# Altium schematic symbol library SCH - MCU - STM32 - ST MICROELECTRONICS STM32U585QIIXQ UFBGA132.SchLib: 1 symbol
Pins are listed as number, name and electrical type; pins without a type are passive.

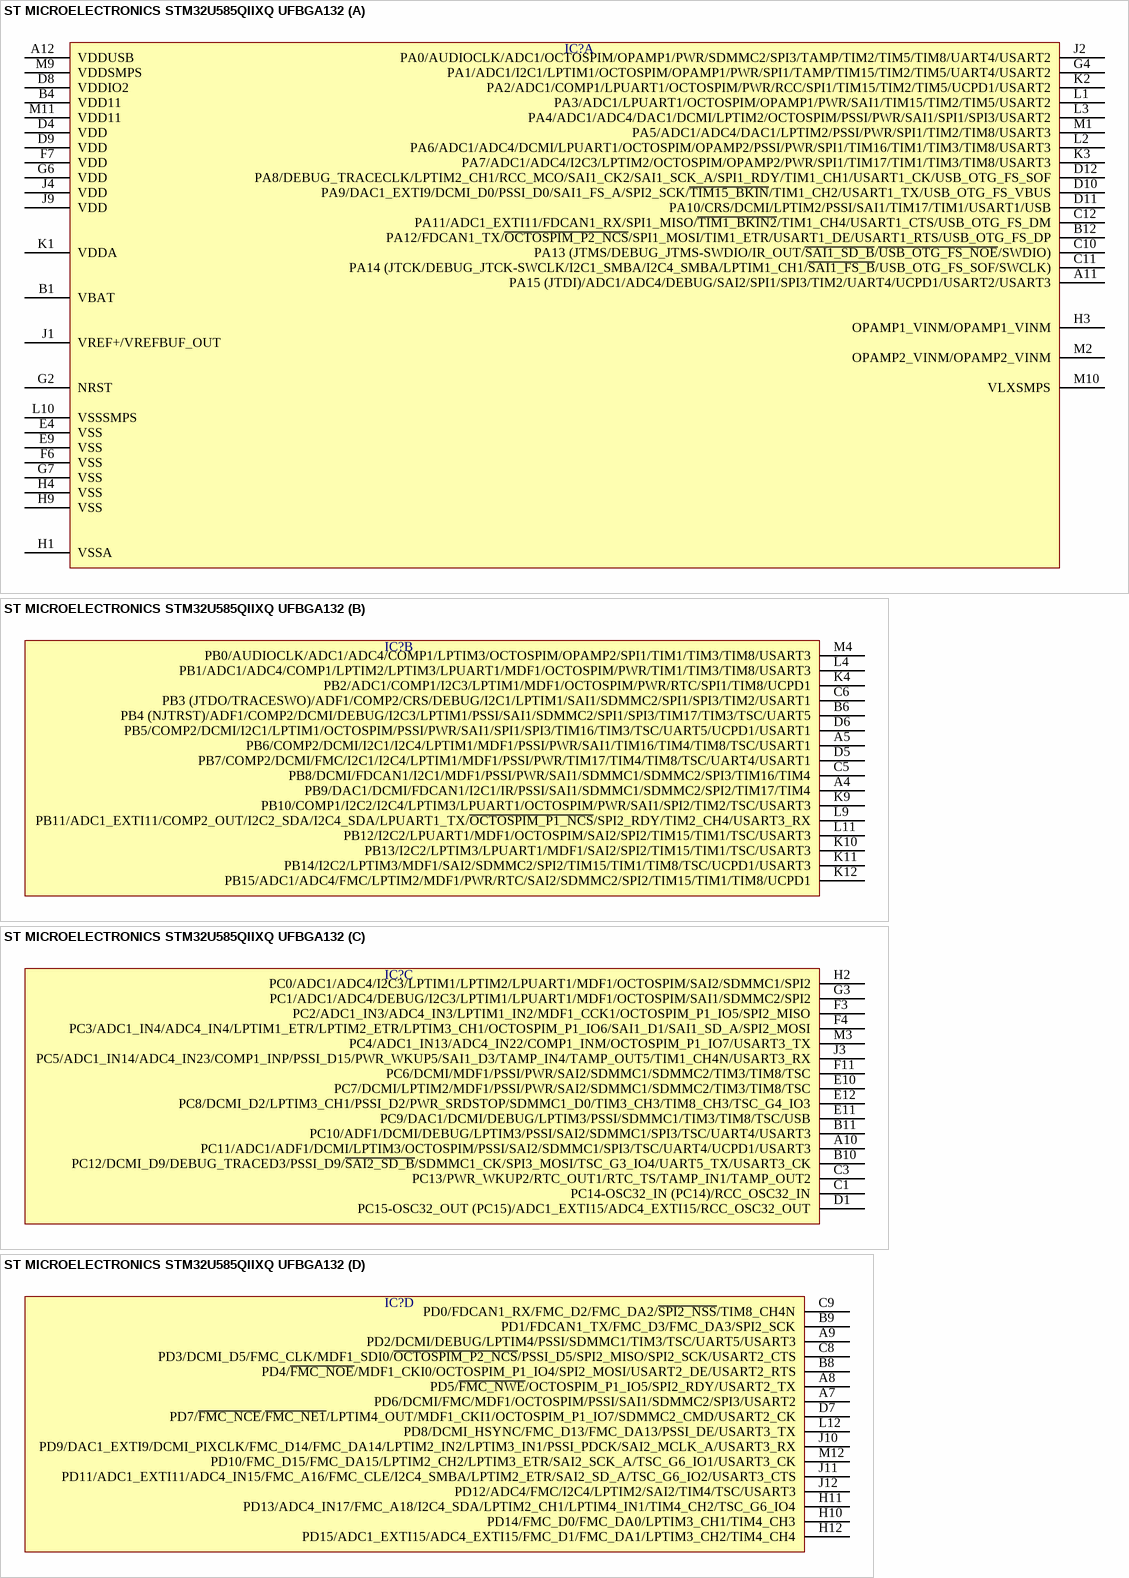
[diagram p0: symbol ST MICROELECTRONICS STM32U585QIIXQ UFBGA132]

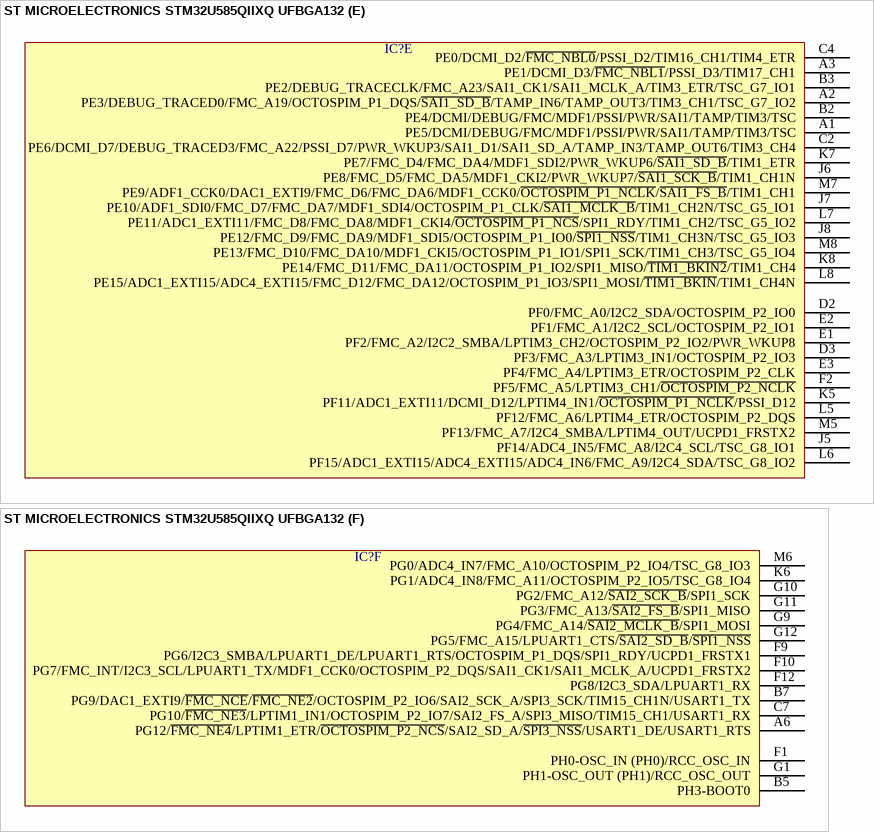
[diagram p1: symbol ST MICROELECTRONICS STM32U585QIIXQ UFBGA132]

## ST MICROELECTRONICS STM32U585QIIXQ UFBGA132
designator IC?  (value not drawn)
part A pins: A11 PA15 (JTDI)/ADC1/ADC4/DEBUG/SAI2/SPI1/SPI3/TIM2/UART4/UCPD1/USART2/USART3, A12 VDDUSB, B1 VBAT, B4 VDD11, B12 PA12/FDCAN1_TX/~{OCTOSPIM_P2_NCS}/SPI1_MOSI/TIM1_ETR/USART1_DE/USART1_RTS/USB_OTG_FS_DP, C10 PA13 (JTMS/DEBUG_JTMS-SWDIO/IR_OUT/~{SAI1_SD_B}/~{USB_OTG_FS_NOE}/SWDIO), C11 PA14 (JTCK/DEBUG_JTCK-SWCLK/I2C1_SMBA/I2C4_SMBA/LPTIM1_CH1/~{SAI1_FS_B}/USB_OTG_FS_SOF/SWCLK), C12 PA11/ADC1_EXTI11/FDCAN1_RX/SPI1_MISO/~{TIM1_BKIN2}/TIM1_CH4/USART1_CTS/USB_OTG_FS_DM, D4 VDD, D8 VDDIO2, D9 VDD, D10 PA9/DAC1_EXTI9/DCMI_D0/PSSI_D0/SAI1_FS_A/SPI2_SCK/~{TIM15_BKIN}/TIM1_CH2/USART1_TX/USB_OTG_FS_VBUS, D11 PA10/CRS/DCMI/LPTIM2/PSSI/SAI1/TIM17/TIM1/USART1/USB, D12 PA8/DEBUG_TRACECLK/LPTIM2_CH1/RCC_MCO/SAI1_CK2/SAI1_SCK_A/SPI1_RDY/TIM1_CH1/USART1_CK/USB_OTG_FS_SOF, E4 VSS, E9 VSS, F6 VSS, F7 VDD, G2 NRST, G4 PA1/ADC1/I2C1/LPTIM1/OCTOSPIM/OPAMP1/PWR/SPI1/TAMP/TIM15/TIM2/TIM5/UART4/USART2, G6 VDD, G7 VSS, H1 VSSA, H3 OPAMP1_VINM/OPAMP1_VINM, H4 VSS, H9 VSS, J1 VREF+/VREFBUF_OUT, J2 PA0/AUDIOCLK/ADC1/OCTOSPIM/OPAMP1/PWR/SDMMC2/SPI3/TAMP/TIM2/TIM5/TIM8/UART4/USART2, J4 VDD, J9 VDD, K1 VDDA, K2 PA2/ADC1/COMP1/LPUART1/OCTOSPIM/PWR/RCC/SPI1/TIM15/TIM2/TIM5/UCPD1/USART2, K3 PA7/ADC1/ADC4/I2C3/LPTIM2/OCTOSPIM/OPAMP2/PWR/SPI1/TIM17/TIM1/TIM3/TIM8/USART3, L1 PA3/ADC1/LPUART1/OCTOSPIM/OPAMP1/PWR/SAI1/TIM15/TIM2/TIM5/USART2, L2 PA6/ADC1/ADC4/DCMI/LPUART1/OCTOSPIM/OPAMP2/PSSI/PWR/SPI1/TIM16/TIM1/TIM3/TIM8/USART3, L3 PA4/ADC1/ADC4/DAC1/DCMI/LPTIM2/OCTOSPIM/PSSI/PWR/SAI1/SPI1/SPI3/USART2, L10 VSSSMPS, M1 PA5/ADC1/ADC4/DAC1/LPTIM2/PSSI/PWR/SPI1/TIM2/TIM8/USART3, M2 OPAMP2_VINM/OPAMP2_VINM, M9 VDDSMPS, M10 VLXSMPS, M11 VDD11
part B pins: A4 PB9/DAC1/DCMI/FDCAN1/I2C1/IR/PSSI/SAI1/SDMMC1/SDMMC2/SPI2/TIM17/TIM4, A5 PB6/COMP2/DCMI/I2C1/I2C4/LPTIM1/MDF1/PSSI/PWR/SAI1/TIM16/TIM4/TIM8/TSC/USART1, B6 PB4 (NJTRST)/ADF1/COMP2/DCMI/DEBUG/I2C3/LPTIM1/PSSI/SAI1/SDMMC2/SPI1/SPI3/TIM17/TIM3/TSC/UART5, C5 PB8/DCMI/FDCAN1/I2C1/MDF1/PSSI/PWR/SAI1/SDMMC1/SDMMC2/SPI3/TIM16/TIM4, C6 PB3 (JTDO/TRACESWO)/ADF1/COMP2/CRS/DEBUG/I2C1/LPTIM1/SAI1/SDMMC2/SPI1/SPI3/TIM2/USART1, D5 PB7/COMP2/DCMI/FMC/I2C1/I2C4/LPTIM1/MDF1/PSSI/PWR/TIM17/TIM4/TIM8/TSC/UART4/USART1, D6 PB5/COMP2/DCMI/I2C1/LPTIM1/OCTOSPIM/PSSI/PWR/SAI1/SPI1/SPI3/TIM16/TIM3/TSC/UART5/UCPD1/USART1, K4 PB2/ADC1/COMP1/I2C3/LPTIM1/MDF1/OCTOSPIM/PWR/RTC/SPI1/TIM8/UCPD1, K9 PB10/COMP1/I2C2/I2C4/LPTIM3/LPUART1/OCTOSPIM/PWR/SAI1/SPI2/TIM2/TSC/USART3, K10 PB13/I2C2/LPTIM3/LPUART1/MDF1/SAI2/SPI2/TIM15/TIM1/TSC/USART3, K11 PB14/I2C2/LPTIM3/MDF1/SAI2/SDMMC2/SPI2/TIM15/TIM1/TIM8/TSC/UCPD1/USART3, K12 PB15/ADC1/ADC4/FMC/LPTIM2/MDF1/PWR/RTC/SAI2/SDMMC2/SPI2/TIM15/TIM1/TIM8/UCPD1, L4 PB1/ADC1/ADC4/COMP1/LPTIM2/LPTIM3/LPUART1/MDF1/OCTOSPIM/PWR/TIM1/TIM3/TIM8/USART3, L9 PB11/ADC1_EXTI11/COMP2_OUT/I2C2_SDA/I2C4_SDA/LPUART1_TX/~{OCTOSPIM_P1_NCS}/SPI2_RDY/TIM2_CH4/USART3_RX, L11 PB12/I2C2/LPUART1/MDF1/OCTOSPIM/SAI2/SPI2/TIM15/TIM1/TSC/USART3, M4 PB0/AUDIOCLK/ADC1/ADC4/COMP1/LPTIM3/OCTOSPIM/OPAMP2/SPI1/TIM1/TIM3/TIM8/USART3
part C pins: A10 PC11/ADC1/ADF1/DCMI/LPTIM3/OCTOSPIM/PSSI/SAI2/SDMMC1/SPI3/TSC/UART4/UCPD1/USART3, B10 PC12/DCMI_D9/DEBUG_TRACED3/PSSI_D9/~{SAI2_SD_B}/SDMMC1_CK/SPI3_MOSI/TSC_G3_IO4/UART5_TX/USART3_CK, B11 PC10/ADF1/DCMI/DEBUG/LPTIM3/PSSI/SAI2/SDMMC1/SPI3/TSC/UART4/USART3, C1 PC14-OSC32_IN (PC14)/RCC_OSC32_IN, C3 PC13/PWR_WKUP2/RTC_OUT1/RTC_TS/TAMP_IN1/TAMP_OUT2, D1 PC15-OSC32_OUT (PC15)/ADC1_EXTI15/ADC4_EXTI15/RCC_OSC32_OUT, E10 PC7/DCMI/LPTIM2/MDF1/PSSI/PWR/SAI2/SDMMC1/SDMMC2/TIM3/TIM8/TSC, E11 PC9/DAC1/DCMI/DEBUG/LPTIM3/PSSI/SDMMC1/TIM3/TIM8/TSC/USB, E12 PC8/DCMI_D2/LPTIM3_CH1/PSSI_D2/PWR_SRDSTOP/SDMMC1_D0/TIM3_CH3/TIM8_CH3/TSC_G4_IO3, F3 PC2/ADC1_IN3/ADC4_IN3/LPTIM1_IN2/MDF1_CCK1/OCTOSPIM_P1_IO5/SPI2_MISO, F4 PC3/ADC1_IN4/ADC4_IN4/LPTIM1_ETR/LPTIM2_ETR/LPTIM3_CH1/OCTOSPIM_P1_IO6/SAI1_D1/SAI1_SD_A/SPI2_MOSI, F11 PC6/DCMI/MDF1/PSSI/PWR/SAI2/SDMMC1/SDMMC2/TIM3/TIM8/TSC, G3 PC1/ADC1/ADC4/DEBUG/I2C3/LPTIM1/LPUART1/MDF1/OCTOSPIM/SAI1/SDMMC2/SPI2, H2 PC0/ADC1/ADC4/I2C3/LPTIM1/LPTIM2/LPUART1/MDF1/OCTOSPIM/SAI2/SDMMC1/SPI2, J3 PC5/ADC1_IN14/ADC4_IN23/COMP1_INP/PSSI_D15/PWR_WKUP5/SAI1_D3/TAMP_IN4/TAMP_OUT5/TIM1_CH4N/USART3_RX, M3 PC4/ADC1_IN13/ADC4_IN22/COMP1_INM/OCTOSPIM_P1_IO7/USART3_TX
part D pins: A7 PD6/DCMI/FMC/MDF1/OCTOSPIM/PSSI/SAI1/SDMMC2/SPI3/USART2, A8 PD5/~{FMC_NWE}/OCTOSPIM_P1_IO5/SPI2_RDY/USART2_TX, A9 PD2/DCMI/DEBUG/LPTIM4/PSSI/SDMMC1/TIM3/TSC/UART5/USART3, B8 PD4/~{FMC_NOE}/MDF1_CKI0/OCTOSPIM_P1_IO4/SPI2_MOSI/USART2_DE/USART2_RTS, B9 PD1/FDCAN1_TX/FMC_D3/FMC_DA3/SPI2_SCK, C8 PD3/DCMI_D5/FMC_CLK/MDF1_SDI0/~{OCTOSPIM_P2_NCS}/PSSI_D5/SPI2_MISO/SPI2_SCK/USART2_CTS, C9 PD0/FDCAN1_RX/FMC_D2/FMC_DA2/~{SPI2_NSS}/TIM8_CH4N, D7 PD7/~{FMC_NCE}/~{FMC_NE1}/LPTIM4_OUT/MDF1_CKI1/OCTOSPIM_P1_IO7/SDMMC2_CMD/USART2_CK, H10 PD14/FMC_D0/FMC_DA0/LPTIM3_CH1/TIM4_CH3, H11 PD13/ADC4_IN17/FMC_A18/I2C4_SDA/LPTIM2_CH1/LPTIM4_IN1/TIM4_CH2/TSC_G6_IO4, H12 PD15/ADC1_EXTI15/ADC4_EXTI15/FMC_D1/FMC_DA1/LPTIM3_CH2/TIM4_CH4, J10 PD9/DAC1_EXTI9/DCMI_PIXCLK/FMC_D14/FMC_DA14/LPTIM2_IN2/LPTIM3_IN1/PSSI_PDCK/SAI2_MCLK_A/USART3_RX, J11 PD11/ADC1_EXTI11/ADC4_IN15/FMC_A16/FMC_CLE/I2C4_SMBA/LPTIM2_ETR/SAI2_SD_A/TSC_G6_IO2/USART3_CTS, J12 PD12/ADC4/FMC/I2C4/LPTIM2/SAI2/TIM4/TSC/USART3, L12 PD8/DCMI_HSYNC/FMC_D13/FMC_DA13/PSSI_DE/USART3_TX, M12 PD10/FMC_D15/FMC_DA15/LPTIM2_CH2/LPTIM3_ETR/SAI2_SCK_A/TSC_G6_IO1/USART3_CK
part E pins: A1 PE5/DCMI/DEBUG/FMC/MDF1/PSSI/PWR/SAI1/TAMP/TIM3/TSC, A2 PE3/DEBUG_TRACED0/FMC_A19/OCTOSPIM_P1_DQS/~{SAI1_SD_B}/TAMP_IN6/TAMP_OUT3/TIM3_CH1/TSC_G7_IO2, A3 PE1/DCMI_D3/~{FMC_NBL1}/PSSI_D3/TIM17_CH1, B2 PE4/DCMI/DEBUG/FMC/MDF1/PSSI/PWR/SAI1/TAMP/TIM3/TSC, B3 PE2/DEBUG_TRACECLK/FMC_A23/SAI1_CK1/SAI1_MCLK_A/TIM3_ETR/TSC_G7_IO1, C2 PE6/DCMI_D7/DEBUG_TRACED3/FMC_A22/PSSI_D7/PWR_WKUP3/SAI1_D1/SAI1_SD_A/TAMP_IN3/TAMP_OUT6/TIM3_CH4, C4 PE0/DCMI_D2/~{FMC_NBL0}/PSSI_D2/TIM16_CH1/TIM4_ETR, D2 PF0/FMC_A0/I2C2_SDA/OCTOSPIM_P2_IO0, D3 PF3/FMC_A3/LPTIM3_IN1/OCTOSPIM_P2_IO3, E1 PF2/FMC_A2/I2C2_SMBA/LPTIM3_CH2/OCTOSPIM_P2_IO2/PWR_WKUP8, E2 PF1/FMC_A1/I2C2_SCL/OCTOSPIM_P2_IO1, E3 PF4/FMC_A4/LPTIM3_ETR/OCTOSPIM_P2_CLK, F2 PF5/FMC_A5/LPTIM3_CH1/~{OCTOSPIM_P2_NCLK}, J5 PF14/ADC4_IN5/FMC_A8/I2C4_SCL/TSC_G8_IO1, J6 PE8/FMC_D5/FMC_DA5/MDF1_CKI2/PWR_WKUP7/~{SAI1_SCK_B}/TIM1_CH1N, J7 PE10/ADF1_SDI0/FMC_D7/FMC_DA7/MDF1_SDI4/OCTOSPIM_P1_CLK/~{SAI1_MCLK_B}/TIM1_CH2N/TSC_G5_IO1, J8 PE12/FMC_D9/FMC_DA9/MDF1_SDI5/OCTOSPIM_P1_IO0/~{SPI1_NSS}/TIM1_CH3N/TSC_G5_IO3, K5 PF11/ADC1_EXTI11/DCMI_D12/LPTIM4_IN1/~{OCTOSPIM_P1_NCLK}/PSSI_D12, K7 PE7/FMC_D4/FMC_DA4/MDF1_SDI2/PWR_WKUP6/~{SAI1_SD_B}/TIM1_ETR, K8 PE14/FMC_D11/FMC_DA11/OCTOSPIM_P1_IO2/SPI1_MISO/~{TIM1_BKIN2}/TIM1_CH4, L5 PF12/FMC_A6/LPTIM4_ETR/OCTOSPIM_P2_DQS, L6 PF15/ADC1_EXTI15/ADC4_EXTI15/ADC4_IN6/FMC_A9/I2C4_SDA/TSC_G8_IO2, L7 PE11/ADC1_EXTI11/FMC_D8/FMC_DA8/MDF1_CKI4/~{OCTOSPIM_P1_NCS}/SPI1_RDY/TIM1_CH2/TSC_G5_IO2, L8 PE15/ADC1_EXTI15/ADC4_EXTI15/FMC_D12/FMC_DA12/OCTOSPIM_P1_IO3/SPI1_MOSI/~{TIM1_BKIN}/TIM1_CH4N, M5 PF13/FMC_A7/I2C4_SMBA/LPTIM4_OUT/UCPD1_FRSTX2, M7 PE9/ADF1_CCK0/DAC1_EXTI9/FMC_D6/FMC_DA6/MDF1_CCK0/~{OCTOSPIM_P1_NCLK}/~{SAI1_FS_B}/TIM1_CH1, M8 PE13/FMC_D10/FMC_DA10/MDF1_CKI5/OCTOSPIM_P1_IO1/SPI1_SCK/TIM1_CH3/TSC_G5_IO4
part F pins: A6 PG12/~{FMC_NE4}/LPTIM1_ETR/~{OCTOSPIM_P2_NCS}/SAI2_SD_A/~{SPI3_NSS}/USART1_DE/USART1_RTS, B5 PH3-BOOT0, B7 PG9/DAC1_EXTI9/~{FMC_NCE}/~{FMC_NE2}/OCTOSPIM_P2_IO6/SAI2_SCK_A/SPI3_SCK/TIM15_CH1N/USART1_TX, C7 PG10/~{FMC_NE3}/LPTIM1_IN1/OCTOSPIM_P2_IO7/SAI2_FS_A/SPI3_MISO/TIM15_CH1/USART1_RX, F1 PH0-OSC_IN (PH0)/RCC_OSC_IN, F9 PG6/I2C3_SMBA/LPUART1_DE/LPUART1_RTS/OCTOSPIM_P1_DQS/SPI1_RDY/UCPD1_FRSTX1, F10 PG7/FMC_INT/I2C3_SCL/LPUART1_TX/MDF1_CCK0/OCTOSPIM_P2_DQS/SAI1_CK1/SAI1_MCLK_A/UCPD1_FRSTX2, F12 PG8/I2C3_SDA/LPUART1_RX, G1 PH1-OSC_OUT (PH1)/RCC_OSC_OUT, G9 PG4/FMC_A14/~{SAI2_MCLK_B}/SPI1_MOSI, G10 PG2/FMC_A12/~{SAI2_SCK_B}/SPI1_SCK, G11 PG3/FMC_A13/~{SAI2_FS_B}/SPI1_MISO, G12 PG5/FMC_A15/LPUART1_CTS/~{SAI2_SD_B}/~{SPI1_NSS}, K6 PG1/ADC4_IN8/FMC_A11/OCTOSPIM_P2_IO5/TSC_G8_IO4, M6 PG0/ADC4_IN7/FMC_A10/OCTOSPIM_P2_IO4/TSC_G8_IO3